# Altium footprint library cap.PcbLib: 78 footprints (part 5 of 5)
Each footprint in its own frame and in the unit in brackets; x right, y up, seen from the top. Pads: shape width x height; smd on the part's side, far side on the other; paste and mask are expansions set on the pad; w line width, h text height; cw(c..) or ccw(c..) is an arc to the next point about the centre after c.
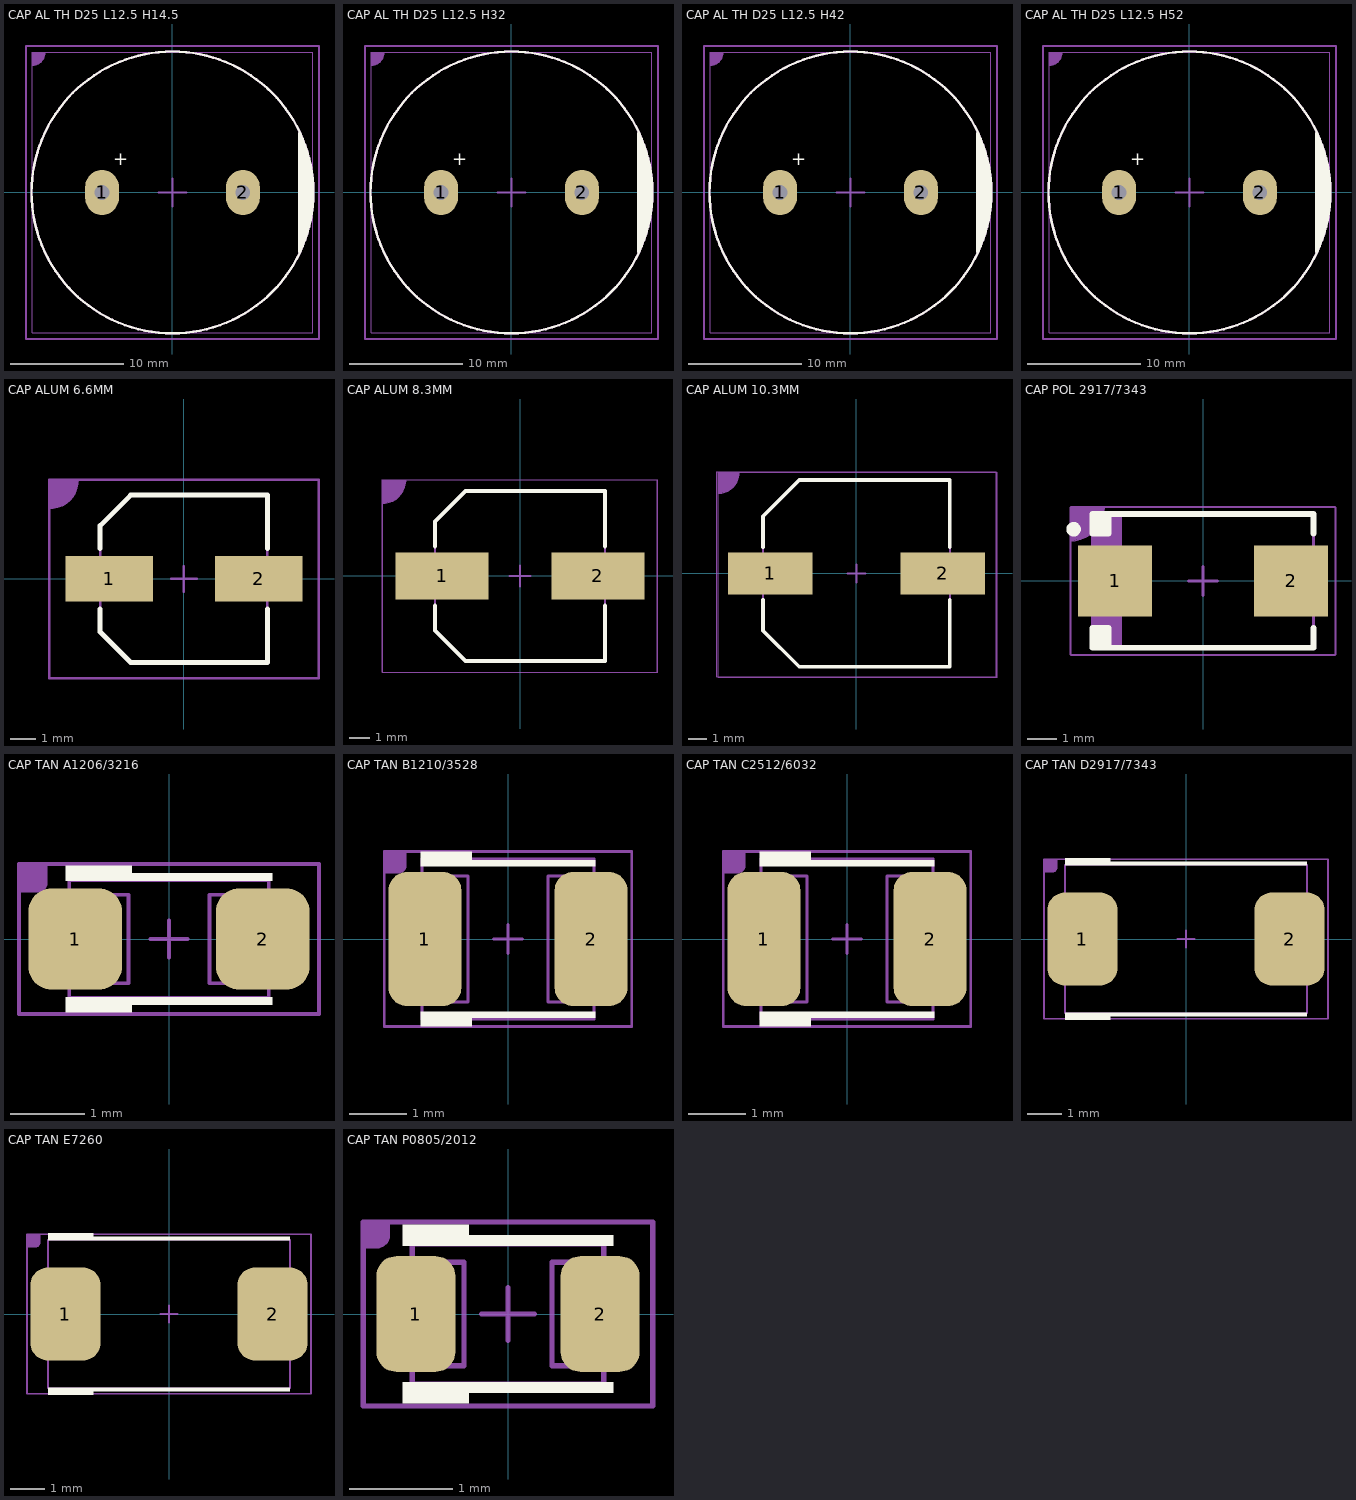
[diagram p4: the footprints below, top view; thin cyan lines are the x and y axes]

## CAP AL TH D25 L12.5 H14.5 [mm] "16MM Diameter, 7.5MM Lead Spacing Aluminium Capacitor"
height 14.5
pads (2):
  oval 3x4 hole 1.3: 1(-6.25,0) 2(6.25,0)
Top Overlay:
  circle w0.2: c0,0 r12.5
  region: 11.25,-5.25 11.25,5.375 12,3.5 12.25,2.5 12.5,1 12.5,0 12.5,-1 12,-3.5
  lines w0.2: 11.25,-5.25 11.25,5.25
  text "+" at -5.25,2 h2
Mechanical 13:
  circle w0.2: c0,0 r12.5
  lines w0.2: 11.25,-5.25 11.25,5.25
M15:
  region: -12.446,12.446 -12.446,11.261 -11.877,11.399 -11.434,11.823 -11.251,12.446
  lines w0.051: -12.446,-12.446 12.446,-12.446 12.446,12.446 -12.446,12.446 -12.446,-12.446 ; -12.446,11.275 ccw(c-12.446,12.446) -11.275,12.446 cw(c-12.446,12.446) -12.446,11.275
  text ".Designator" at -3.048,-2.032 h7.62
Mechanical 19:
  lines w0.2: -1.25,0 1.25,0 ; 0,-1.25 0,1.25 ; -13,-13 -13,13 13,13 13,-13 -13,-13
3D body "CAP ALTH D-25MM L-12.5MM H-14.5MM.STEP": height 14.7, standoff -3, extent -12.5,-12.489 12.5,12.489

## CAP AL TH D25 L12.5 H32 [mm] "16MM Diameter, 7.5MM Lead Spacing Aluminium Capacitor"
height 32
pads (2):
  oval 3x4 hole 1.3: 1(-6.25,0) 2(6.25,0)
Top Overlay:
  circle w0.2: c0,0 r12.5
  region: 11.25,-5.25 11.25,5.375 12,3.5 12.25,2.5 12.5,1 12.5,0 12.5,-1 12,-3.5
  lines w0.2: 11.25,-5.25 11.25,5.25
  text "+" at -5.25,2 h2
Mechanical 13:
  circle w0.2: c0,0 r12.5
  lines w0.2: 11.25,-5.25 11.25,5.25
M15:
  region: -12.446,12.446 -12.446,11.261 -11.877,11.399 -11.434,11.823 -11.251,12.446
  lines w0.051: -12.446,-12.446 12.446,-12.446 12.446,12.446 -12.446,12.446 -12.446,-12.446 ; -12.446,11.275 ccw(c-12.446,12.446) -11.275,12.446 cw(c-12.446,12.446) -12.446,11.275
  text ".Designator" at -3.048,-2.032 h7.62
Mechanical 19:
  lines w0.2: -1.25,0 1.25,0 ; 0,-1.25 0,1.25 ; -13,-13 13,-13 13,13 -13,13 -13,-13
3D body "CAP ALTH D-25MM L-12.5MM H-32MM.STEP": height 32.2, standoff -3, extent -12.5,-12.49 12.5,12.491

## CAP AL TH D25 L12.5 H42 [mm] "16MM Diameter, 7.5MM Lead Spacing Aluminium Capacitor"
height 42
pads (2):
  oval 3x4 hole 1.3: 1(-6.25,0) 2(6.25,0)
Top Overlay:
  circle w0.2: c0,0 r12.5
  region: 11.25,-5.25 11.25,5.375 12,3.5 12.25,2.5 12.5,1 12.5,0 12.5,-1 12,-3.5
  lines w0.2: 11.25,-5.25 11.25,5.25
  text "+" at -5.25,2 h2
Mechanical 13:
  circle w0.2: c0,0 r12.5
  lines w0.2: 11.25,-5.25 11.25,5.25
M15:
  region: -12.446,12.446 -12.446,11.261 -11.877,11.399 -11.434,11.823 -11.251,12.446
  lines w0.051: -12.446,-12.446 12.446,-12.446 12.446,12.446 -12.446,12.446 -12.446,-12.446 ; -12.446,11.275 ccw(c-12.446,12.446) -11.275,12.446 cw(c-12.446,12.446) -12.446,11.275
  text ".Designator" at -3.048,-2.032 h7.62
Mechanical 19:
  lines w0.2: -1.25,0 1.25,0 ; 0,-1.25 0,1.25 ; -13,-13 -13,13 13,13 13,-13 -13,-13
3D body "CAP ALTH D-25MM L-12.5MM H-42MM.STEP": height 42.2, standoff -3, extent -12.5,-12.491 12.5,12.492

## CAP AL TH D25 L12.5 H52 [mm] "16MM Diameter, 7.5MM Lead Spacing Aluminium Capacitor"
height 52
pads (2):
  oval 3x4 hole 1.3: 1(-6.25,0) 2(6.25,0)
Top Overlay:
  circle w0.2: c0,0 r12.5
  region: 11.25,-5.25 11.25,5.375 12,3.5 12.25,2.5 12.5,1 12.5,0 12.5,-1 12,-3.5
  lines w0.2: 11.25,-5.25 11.25,5.25
  text "+" at -5.25,2 h2
Mechanical 13:
  circle w0.2: c0,0 r12.5
  lines w0.2: 11.25,-5.25 11.25,5.25
M15:
  region: -12.446,12.446 -12.446,11.261 -11.877,11.399 -11.434,11.823 -11.251,12.446
  lines w0.051: -12.446,-12.446 -12.446,12.446 12.446,12.446 12.446,-12.446 -12.446,-12.446 ; -12.446,11.275 ccw(c-12.446,12.446) -11.275,12.446 cw(c-12.446,12.446) -12.446,11.275
  text ".Designator" at -3.048,-2.032 h7.62
Mechanical 19:
  lines w0.2: -1.25,0 1.25,0 ; 0,-1.25 0,1.25 ; -13,-13 -13,13 13,13 13,-13 -13,-13
3D body "CAP ALTH D-25MM L-12.5MM H-52MM.STEP": height 52.2, standoff -3, extent -12.5,-12.481 12.5,12.481

## CAP ALUM 6.6MM [mm] "Aluminum Electrolytic Capacitor, Body 6.60x6.60x7.70mm, IPC Low Density"
height 7.7
pads (2):
  rect 3.45x1.8 smd: 1(-2.95,0) 2(2.95,0)
Top Overlay:
  lines w0.2: -3.3,-1.2 -3.3,-2.1 -2.1,-3.3 3.3,-3.3 3.3,-1.2 ; -3.3,1.2 -3.3,2.1 -2.1,3.3 3.3,3.3 3.3,1.2
Mechanical 13:
  lines w0.1: -3.3,-2.1 -3.3,2.1 -2.1,3.3 3.3,3.3 3.3,-3.3 -2.1,-3.3 -3.3,-2.1
M15:
  region: -5.334,3.937 -5.334,2.752 -4.765,2.89 -4.322,3.314 -4.139,3.937
  lines w0.051: -5.334,2.766 ccw(c-5.334,3.937) -4.163,3.937 ; -5.334,-3.937 -5.334,3.937 5.334,3.937 5.334,-3.937 -5.334,-3.937
  text ".Designator" at -2.032,-1.524 h5.08
Comment:
  region: -5.334,3.937 -5.334,2.752 -4.765,2.89 -4.322,3.314 -4.139,3.937
  lines w0.051: -5.334,2.766 ccw(c-5.334,3.937) -4.163,3.937 ; -5.334,-3.937 5.334,-3.937 5.334,3.937 -5.334,3.937 -5.334,-3.937
  text "'.Comment'" at -2.032,-1.524 h5.08
Mechanical 19:
  lines w0.05: -5.3,-3.9 -5.3,3.9 5.3,3.9 5.3,-3.9 -5.3,-3.9
  lines w0.1: -0.5,0 0.5,0 ; 0,-0.5 0,0.5
3D body "CAP ALUM 6_6mm.STEP": height 7.7, standoff 0, extent -3.5,-3.3 3.5,3.3

## CAP ALUM 8.3MM [mm] "Aluminum Electrolytic Capacitor, Body 8.30x8.30x10.50mm, IPC Low Density"
height 10.5
pads (2):
  rect 4.55x2.3 smd: 1(-3.8,0) 2(3.8,0)
Top Overlay:
  lines w0.2: -4.15,-1.45 -4.15,-2.65 -2.65,-4.15 4.15,-4.15 4.15,-1.45 ; -4.15,1.45 -4.15,2.65 -2.65,4.15 4.15,4.15 4.15,1.45
Mechanical 13:
  lines w0.1: -4.15,-2.65 -2.65,-4.15 4.15,-4.15 4.15,4.15 -2.65,4.15 -4.15,2.65 -4.15,-2.65
M15:
  region: -6.731,4.699 -6.731,3.514 -6.162,3.652 -5.719,4.076 -5.536,4.699
  lines w0.051: -6.731,3.528 ccw(c-6.731,4.699) -5.56,4.699 ; -6.731,-4.699 -6.731,4.699 6.731,4.699 6.731,-4.699 -6.731,-4.699
  text ".Designator" at -2.032,-1.397 h5.08
Comment:
  region: -6.731,4.699 -6.731,3.514 -6.162,3.652 -5.719,4.076 -5.536,4.699
  lines w0.051: -6.731,3.528 ccw(c-6.731,4.699) -5.56,4.699 ; -6.731,-4.699 6.731,-4.699 6.731,4.699 -6.731,4.699 -6.731,-4.699
  text "'.Comment'" at -2.032,-1.397 h5.08
Mechanical 19:
  lines w0.05: -6.7,-4.7 6.7,-4.7 6.7,4.7 -6.7,4.7 -6.7,-4.7
  lines w0.1: -0.5,0 0.5,0 ; 0,-0.5 0,0.5
3D body "CAP ALUM 8_3mm.STEP": height 10.5, standoff 0, extent -4.95,-4.15 4.95,4.15

## CAP ALUM 10.3MM [mm] "Aluminum Electrolytic Capacitor, Body 10.30x10.30x10.50mm, IPC Low Density"
height 10.5
pads (2):
  rect 4.65x2.3 smd: 1(-4.75,0) 2(4.75,0)
Top Overlay:
  lines w0.2: -5.15,-1.45 -5.15,-3.15 -3.15,-5.15 5.15,-5.15 5.15,-1.45 ; -5.15,1.45 -5.15,3.15 -3.15,5.15 5.15,5.15 5.15,1.45
Mechanical 13:
  lines w0.1: -5.15,-3.15 -3.15,-5.15 5.15,-5.15 5.15,5.15 -3.15,5.15 -5.15,3.15 -5.15,-3.15
M15:
  region: -7.62,5.588 -7.62,4.403 -7.051,4.541 -6.608,4.965 -6.425,5.588
  lines w0.051: -7.62,-5.715 -7.62,5.588 7.747,5.588 7.747,-5.715 -7.62,-5.715 ; -7.62,4.417 ccw(c-7.62,5.588) -6.449,5.588 cw(c-7.62,5.588) -7.62,4.417
  text ".Designator" at -2.032,-1.524 h5.08
Comment:
  region: -7.62,5.588 -7.62,4.403 -7.051,4.541 -6.608,4.965 -6.425,5.588
  lines w0.051: -7.62,-5.715 7.747,-5.715 7.747,5.588 -7.62,5.588 -7.62,-5.715 ; -7.62,4.417 ccw(c-7.62,5.588) -6.449,5.588 cw(c-7.62,5.588) -7.62,4.417
  text "'.Comment'" at -2.032,-1.524 h5.08
Mechanical 19:
  lines w0.05: -7.7,-5.7 7.7,-5.7 7.7,5.6 -7.7,5.6 -7.7,-5.7
  lines w0.1: -0.5,0 0.5,0 ; 0,-0.5 0,0.5
3D body "CAP ALUM 10_3mm.STEP": height 10.5, standoff 0, extent -5.8,-5.15 5.8,5.15

## CAP POL 2917/7343 [mm] "Molded Capacitor, 2-Leads, Body 7.30x4.30mm, IPC Medium Density"
height 4.3
pads (2):
  rect 2.55x2.45 smd: 1(-3.025,0) 2(3.025,0)
Top Overlay:
  circle w0.25: c-4.45,1.775 r0.125
  rectangle: -3.8,1.625 -3.25,2.3
  rectangle: -3.8,-2.3 -3.25,-1.625
  lines w0.2: -3.25,-2.3 -3.25,-1.625 -3.8,-1.625 -3.8,-2.3 3.8,-2.3 3.8,-1.625 ; -3.25,2.3 -3.25,1.625 -3.8,1.625 -3.8,2.3 3.8,2.3 3.8,1.625
Mechanical 13:
  rectangle: -3.8,-2.3 -2.778,2.3
  lines w0.1: -3.8,-2.3 3.8,-2.3 3.8,2.3 -3.8,2.3 -3.8,-2.3
M15:
  region: -4.572,2.54 -4.572,1.355 -4.003,1.493 -3.56,1.917 -3.377,2.54
  lines w0.051: -4.572,1.369 ccw(c-4.572,2.54) -3.401,2.54 ; -4.572,-2.54 -4.572,2.54 4.572,2.54 4.572,-2.54 -4.572,-2.54
  text ".Designator" at -1.016,-0.762 h2.54
Comment:
  region: -4.572,2.54 -4.572,1.355 -4.003,1.493 -3.56,1.917 -3.377,2.54
  lines w0.051: -4.572,1.369 ccw(c-4.572,2.54) -3.401,2.54 ; -4.572,-2.54 4.572,-2.54 4.572,2.54 -4.572,2.54 -4.572,-2.54
  text "'.Comment'" at -1.016,-0.762 h2.54
Mechanical 19:
  lines w0.05: -4.55,-2.55 -4.55,2.55 4.55,2.55 4.55,-2.55 -4.55,-2.55
  lines w0.1: -0.5,0 0.5,0 ; 0,-0.5 0,0.5
3D body "Tantalum Capacitor case E.STEP": height 4.1, standoff 0, extent -3.65,-2.15 3.65,2.15

## CAP TAN A1206/3216 [mil]
height 70.87
pads (2):
  rrect50% 50x54 smd: 1(-50,0) 2(50,0)
Top Overlay:
  region: 55,-35 -20,-35 -20,-39 -55,-39 -55,-31 55,-31
  region: 55,31 -55,31 -55,39 -20,39 -20,35 55,35
Mechanical 13:
  lines w2: -10,0 10,0 ; 0,-10 0,10 ; -63,-23.63 -63,23.62 -21.66,23.62 -21.66,-23.63 -63,-23.63 ; -53.16,-31.5 53.15,-31.5 53.15,31.5 -53.16,31.5 -53.16,-31.5 ; 21.65,-23.62 21.65,23.62 62.99,23.62 62.99,-23.62 21.65,-23.62
M15:
  region: -80,40 -65,40 -65,30 -65,29.01 -65.76,27.17 -67.17,25.76 -69.01,25 -70,25 -80,25
  lines w2: -80,-40 -80,40 80,40 80,-40 -80,-40
  text ".Designator" at -20,-15 h50
Comment:
  region: -80,40 -65,40 -65,30 -65,29.01 -65.76,27.17 -67.17,25.76 -69.01,25 -70,25 -80,25
  lines w2: -80,-40 -80,40 80,40 80,-40 -80,-40
  text "'.Comment'" at -20,-15 h50
3D body "User Library-CaseA_3216-18.step": height 62.99, standoff 0, extent -62.99,-31.49 63,31.5

## CAP TAN B1210/3528 [mil]
height 82.68
pads (2):
  rrect50% 50x92 smd: 1(-57,0) 2(57,0)
Top Overlay:
  region: 60,50 -60,50 -60,60 -25,60 -25,54 60,54
  region: 60,-54 -25,-54 -25,-60 -60,-60 -60,-50 60,-50
Mechanical 13:
  lines w2: -10,0 10,0 ; 0,-10 0,10 ; -68.89,-43.3 -27.55,-43.3 -27.55,43.31 -68.89,43.31 -68.89,-43.3 ; -59.06,-55.11 -59.06,55.12 59.05,55.12 59.05,-55.11 -59.06,-55.11 ; 27.56,-43.31 27.56,43.31 68.9,43.31 68.9,-43.31 27.56,-43.31
M15:
  region: -85,60 -70,60 -70,50 -70,49.01 -70.76,47.17 -72.17,45.76 -74.01,45 -75,45 -85,45
  lines w2: -85,-60 -85,60 85,60 85,-60 -85,-60
  text ".Designator" at -32,-22 h80
Comment:
  region: -85,60 -70,60 -70,50 -70,49.01 -70.76,47.17 -72.17,45.76 -74.01,45 -75,45 -85,45
  lines w2: -85,-60 -85,60 85,60 85,-60 -85,-60
  text "'.Comment'" at -32,-22 h80
3D body "User Library-CaseB_3528-21.step": height 74.8, standoff 0, extent -68.89,-55.11 68.91,55.13

## CAP TAN C2512/6032 [mil]
height 82.68
pads (2):
  rrect50% 50x92 smd: 1(-57,0) 2(57,0)
Top Overlay:
  region: 60,-54 -25,-54 -25,-60 -60,-60 -60,-50 60,-50
  region: 60,50 -60,50 -60,60 -25,60 -25,54 60,54
Mechanical 13:
  lines w2: -10,0 10,0 ; 0,-10 0,10 ; -68.89,-43.3 -68.89,43.31 -27.55,43.31 -27.55,-43.3 -68.89,-43.3 ; -59.06,-55.11 59.05,-55.11 59.05,55.12 -59.06,55.12 -59.06,-55.11 ; 27.56,-43.31 68.9,-43.31 68.9,43.31 27.56,43.31 27.56,-43.31
M15:
  region: -85,60 -70,60 -70,50 -70,49.01 -70.76,47.17 -72.17,45.76 -74.01,45 -75,45 -85,45
  lines w2: -85,-60 -85,60 85,60 85,-60 -85,-60
  text ".Designator" at -32,-23 h80
Comment:
  region: -85,60 -70,60 -70,50 -70,49.01 -70.76,47.17 -72.17,45.76 -74.01,45 -75,45 -85,45
  lines w2: -85,-60 85,-60 85,60 -85,60 -85,-60
  text "'.Comment'" at -32,-23 h80
3D body "User Library-CaseC_6032-28.step": height 98.43, standoff 0, extent -118.1,-62.98 118.12,63

## CAP TAN D2917/7343 [mil]
height 122.05
pads (2):
  rrect50% 80x106 smd: 1(-118,0) 2(118,0)
Top Overlay:
  region: 137.8,84 -137.8,84 -137.8,92 -86.61,92 -86.61,88 137.8,88
  region: 137.8,-88 -86.61,-88 -86.61,-92 -137.8,-92 -137.8,-84 137.8,-84
Mechanical 13:
  lines w2: -10,0 10,0 ; 0,-10 0,10 ; -143.7,-47.24 -86.61,-47.24 -86.61,47.24 -143.7,47.24 -143.7,-47.24 ; -137.8,-84.65 -137.8,84.65 137.8,84.65 137.8,-84.65 -137.8,-84.65 ; 86.61,-47.24 86.61,47.24 143.7,47.24 143.7,-47.24 86.61,-47.24
M15:
  region: -162,91 -147,91 -147,81 -147,80.01 -147.76,78.17 -149.17,76.76 -151.01,76 -152,76 -162,76
  lines w2: -162,-91 -162,91 162,91 162,-91 -162,-91
  text ".Designator" at -60,-43 h150
Comment:
  region: -162,91 -147,91 -147,81 -147,80.01 -147.76,78.17 -149.17,76.76 -151.01,76 -152,76 -162,76
  lines w2: -162,-91 162,-91 162,91 -162,91 -162,-91
  text "'.Comment'" at -60,-43 h150
3D body "User Library-CaseD_7343-31.step": height 110.24, standoff 0, extent -143.69,-84.64 143.71,84.65

## CAP TAN E7260 [mil]
height 122.05
pads (2):
  rrect50% 80x106 smd: 1(-118,0) 2(118,0)
Top Overlay:
  region: 137.8,-88 -86.61,-88 -86.61,-92 -137.8,-92 -137.8,-84 137.8,-84
  region: 137.8,84 -137.8,84 -137.8,92 -86.61,92 -86.61,88 137.8,88
Mechanical 13:
  lines w2: -10,0 10,0 ; 0,-10 0,10 ; -143.7,-47.24 -143.7,47.24 -86.61,47.24 -86.61,-47.24 -143.7,-47.24 ; -137.8,-84.65 137.8,-84.65 137.8,84.65 -137.8,84.65 -137.8,-84.65 ; 86.61,-47.24 143.7,-47.24 143.7,47.24 86.61,47.24 86.61,-47.24
M15:
  region: -162,91 -147,91 -147,81 -147,80.01 -147.76,78.17 -149.17,76.76 -151.01,76 -152,76 -162,76
  lines w2: -162,-91 -162,91 162,91 162,-91 -162,-91
  text ".Designator" at -60,-42 h150
Comment:
  region: -162,91 -147,91 -147,81 -147,80.01 -147.76,78.17 -149.17,76.76 -151.01,76 -152,76 -162,76
  lines w2: -162,-91 -162,91 162,91 162,-91 -162,-91
  text "'.Comment'" at -60,-42 h150
3D body "User Library-CaseE_7260-38.step": height 141.73, standoff 0, extent -143.69,-118.1 143.71,118.12

## CAP TAN P0805/2012 [mil]
height 59.06
pads (2):
  rrect50% 30x44 smd: 1(-35,0) 2(35,0)
Top Overlay:
  region: 40,-30 -15,-30 -15,-34 -40,-34 -40,-26 40,-26
  region: 40,26 -40,26 -40,34 -15,34 -15,30 40,30
Mechanical 13:
  lines w2: -10,0 10,0 ; 0,-10 0,10 ; -40.35,-19.68 -40.35,19.68 -16.73,19.68 -16.73,-19.68 -40.35,-19.68 ; -36.42,-26.57 36.42,-26.57 36.42,26.57 -36.42,26.57 -36.42,-26.57 ; 16.73,-19.68 16.73,19.68 40.35,19.68 40.35,-19.68 16.73,-19.68
M15:
  region: -55,35 -45,35 -45,30 -45,29.01 -45.76,27.17 -47.17,25.76 -49.01,25 -50,25 -55,25
  lines w2: -55,-35 -55,35 55,35 55,-35 -55,-35
  text ".Designator" at -32,-22 h80
Comment:
  region: -55,35 -45,35 -45,30 -45,29.01 -45.76,27.17 -47.17,25.76 -49.01,25 -50,25 -55,25
  lines w2: -55,-35 55,-35 55,35 -55,35 -55,-35
  text "'.Comment'" at -32,-22 h80
3D body "User Library-CaseR_2012-12.step": height 47.24, standoff 0, extent -39.36,-25.58 39.38,25.6